# Altium footprint library SSSS224100.PcbLib: 1 footprints
Each footprint in its own frame and in the unit in brackets; x right, y up, seen from the top. Pads: shape width x height; smd on the part's side, far side on the other; paste and mask are expansions set on the pad; w line width, h text height; cw(c..) or ccw(c..) is an arc to the next point about the centre after c.
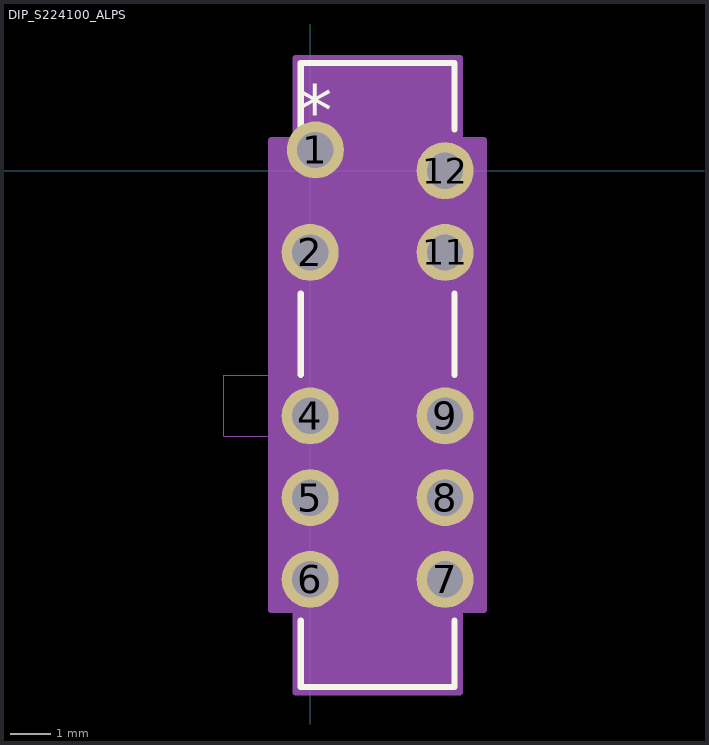
[diagram p0: the footprint, top view; thin cyan lines are the x and y axes]

## DIP_S224100_ALPS [mil]
pads (10):
  round 55 / inner round 60 / far side round 55 hole 35 paste-99999 mask+0: 1(5,20) 2(0,-78.74) 4(0,-236.22) 5(0,-314.96) 6(0,-393.7) 7(129.92,-393.7) 8(129.92,-314.96) 9(129.92,-236.22) 11(129.92,-78.74) 12(129.92,0)
Top Overlay:
  lines w6: -9.04,-433.28 -9.04,-497.35 138.96,-497.35 138.96,-433.28 ; -9.04,-196.64 -9.04,-118.32 ; -9.04,39.58 -9.04,103.65 138.96,103.65 138.96,39.58 ; 138.96,-196.64 138.96,-118.32
  text "*" at -12.5,32.5 h50
Mechanical 13:
  lines w0: 52.96,98.65 ccw(c64.96,98.65) 76.96,98.65
  lines w1: -4.04,-255.85 -83.04,-255.85 -83.04,-196.85 -4.04,-196.85 ; -17.5,-411.2 -4.04,-411.2 -4.04,-376.2 -17.5,-376.2 -17.5,-411.2 ; -17.5,-332.46 -4.04,-332.46 -4.04,-297.46 -17.5,-297.46 -17.5,-332.46 ; -17.5,-253.72 -4.04,-253.72 -4.04,-218.72 -17.5,-218.72 -17.5,-253.72 ; -17.5,-96.24 -4.04,-96.24 -4.04,-61.24 -17.5,-61.24 -17.5,-96.24 ; -17.5,-17.5 -4.04,-17.5 -4.04,17.5 -17.5,17.5 -17.5,-17.5 ; -4.04,-492.35 -4.04,98.65 133.96,98.65 133.96,-492.35 -4.04,-492.35 ; 133.96,-411.2 147.42,-411.2 147.42,-376.2 133.96,-376.2 133.96,-411.2 ; 133.96,-332.46 147.42,-332.46 147.42,-297.46 133.96,-297.46 133.96,-332.46 ; 133.96,-253.72 147.42,-253.72 147.42,-218.72 133.96,-218.72 133.96,-253.72 ; 133.96,-96.24 147.42,-96.24 147.42,-61.24 133.96,-61.24 133.96,-96.24 ; 133.96,-17.5 147.42,-17.5 147.42,17.5 133.96,17.5 133.96,-17.5
  text "*" at -6.54,-25 h50
Mechanical 15:
  region: 143.96,-423.07 167.42,-423.07 167.42,29.37 143.96,29.37 143.96,108.65 -14.04,108.65 -14.04,29.37 -37.5,29.37 -37.5,-423.07 -14.04,-423.07 -14.04,-502.35 143.96,-502.35
  lines w6: -37.5,-423.07 -14.04,-423.07 -14.04,-502.35 143.96,-502.35 143.96,-423.07 167.42,-423.07 167.42,29.37 143.96,29.37 143.96,108.65 -14.04,108.65 -14.04,29.37 -37.5,29.37 -37.5,-423.07
3D body "SW-TH_SSSS224100.step": height 130.46, standoff -105.8, extent -87.64,-486.33 130.87,104.22